# Altium footprint library NON SMD NON POLAR CAPACITOR.PcbLib: 41 footprints (part 3 of 3)
Each footprint in its own frame and in the unit in brackets; x right, y up, seen from the top. Pads: shape width x height; smd on the part's side, far side on the other; paste and mask are expansions set on the pad; w line width, h text height; cw(c..) or ccw(c..) is an arc to the next point about the centre after c.
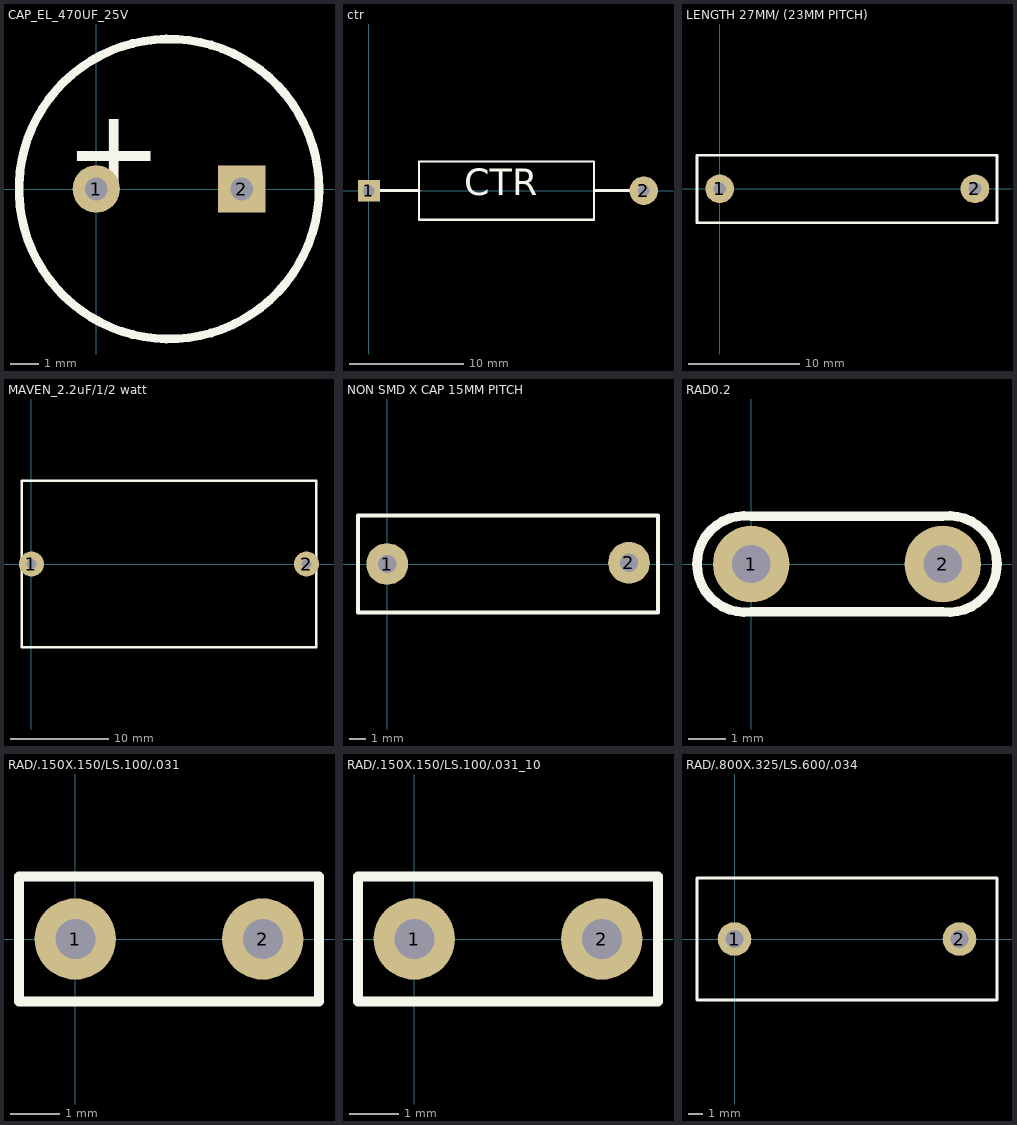
[diagram p2: the footprints below, top view; thin cyan lines are the x and y axes]

## CAP_EL_470UF_25V [mil]
pads (2):
  round 65 / inner round 60 / far side round 65 hole 31.5: 1(0,0)
  rect 65x65 / inner round 60 / far side rect 65x65 hole 31.5: 2(200,0)
Top Overlay:
  circle w11.82: c100,0 r206.16
  text "+" at -43.15,-5.72 h118.11

## ctr [mm]
pads (2):
  rect 1.9x1.9 / inner rect 1.6x1.6 / far side rect 1.9x1.9 hole 1: 1(0,0)
  round 2.5 hole 1: 2(24,0)
Top Overlay:
  lines w0.203: 4.37,-2.54 19.66,-2.54 19.66,2.54 4.37,2.54 4.37,-1.465 4.37,-2.54
  lines w0.254: 0,0 4.37,0 ; 19.74,0 24,0
  text "CTR" at 8.34,-1.17 h4

## LENGTH 27MM/ (23MM PITCH) [mil]
pads (2):
  round 102 / inner round 62 / far side round 102 hole 45: 1(0,0) 2(905.52,0)
Top Overlay:
  lines w10: -80.4,-120.8 983.6,-120.8 983.6,119.2 -80.4,119.2 -80.4,-120.8

## MAVEN_2.2uF/1/2 watt [mm] "17mm x 30mm / pitch28mm"
pads (2):
  round 2.54 / inner round 1.575 / far side round 2.54 hole 1: 1(0,0) 2(28,0)
Top Overlay:
  lines w0.254: -1,-8.5 29,-8.5 29,8.5 -1,8.5 -1,-8.5

## NON SMD X CAP 15MM PITCH [mil]
pads (2):
  round 102 / inner round 62 / far side round 102 hole 45: 1(0,0) 2(590.55,3)
Top Overlay:
  lines w10: -71.2,-118 639.6,-118 660.76,-118 661.42,-117.35 661.42,6.54 661.42,117.35 ; -71.2,118 639.6,118 660.76,118 ; -70.87,-118 -70.87,118

## RAD0.2 [mil]
pads (2):
  round 80 / inner round 62 / far side round 80 hole 40: 1(0,0) 2(200,0)
Top Overlay:
  lines w10: 0,-50 cw(c-6.25,0) 0,50 200,50 cw(c206.25,0) 200,-50 0,-50

## RAD/.150X.150/LS.100/.031 [mil]
pads (2):
  round 65 / inner round 52 / far side round 65 hole 32: 1(0,0) 2(150,0)
Top Overlay:
  lines w8: -45,-25 -45,-50 ; 195,-30 195,-50 ; -45,-50 -45,50 195,50 195,-50 ; -45,-50 195,-50

## RAD/.150X.150/LS.100/.031_10 [mil]
pads (2):
  round 65 / inner round 52 / far side round 65 hole 32: 1(0,0) 2(150,0)
Top Overlay:
  lines w8: -45,-25 -45,-50 ; 195,-30 195,-50 ; -45,-50 195,-50 ; -45,-50 -45,50 195,50 195,-50

## RAD/.800X.325/LS.600/.034 [mil]
pads (2):
  round 90 / inner round 60 / far side round 90 hole 47.23: 1(0,0) 2(600,0)
Top Overlay:
  lines w8: -100,-162.5 -100,162.5 700,162.5 700,-162.5 -100,-162.5